# EAGLE library part V__VFD_FV651G (library ++Bedrahtet)
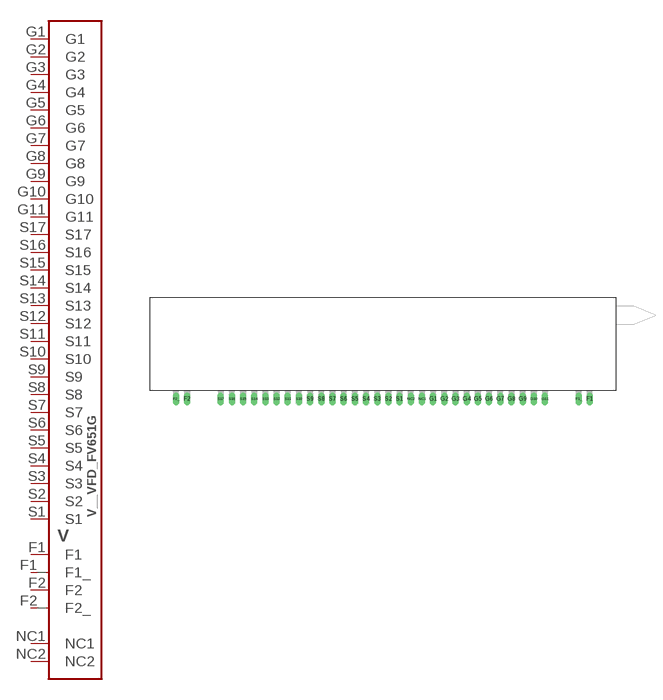
[diagram p28: symbol with the pads of VFD_FV651G; footprint VFD_FV651G]

Designator prefix V

## V__VFD_FV651G  [VFD_FV651G]
F1  F1
F1_  F1_
F2  F2
F2_  F2_
G1  G1
G2  G2
G3  G3
G4  G4
G5  G5
G6  G6
G7  G7
G8  G8
G9  G9
G10  G10
G11  G11
NC1  NC1
NC2  NC2
S1  S1
S2  S2
S3  S3
S4  S4
S5  S5
S6  S6
S7  S7
S8  S8
S9  S9
S10  S10
S11  S11
S12  S12
S13  S13
S14  S14
S15  S15
S16  S16
S17  S17

## Footprint VFD_FV651G (pad centres in mm)
VFD-Display
drill 1 long: F1 93.98,0; F1_ 91.44,0; F2 2.54,0; F2_ 0,0; G1 58.42,0; G2 60.96,0; G3 63.5,0; G4 66.04,0; G5 68.58,0; G6 71.12,0; G7 73.66,0; G8 76.2,0; G9 78.74,0; G10 81.28,0; G11 83.82,0; NC1 55.88,0; NC2 53.34,0; S1 50.8,0; S2 48.26,0; S3 45.72,0; S4 43.18,0; S5 40.64,0; S6 38.1,0; S7 35.56,0; S8 33.02,0; S9 30.48,0; S10 27.94,0; S11 25.4,0; S12 22.86,0; S13 20.32,0; S14 17.78,0; S15 15.24,0; S16 12.7,0; S17 10.16,0